# EAGLE library part MCP4251 (library fillament-winder)
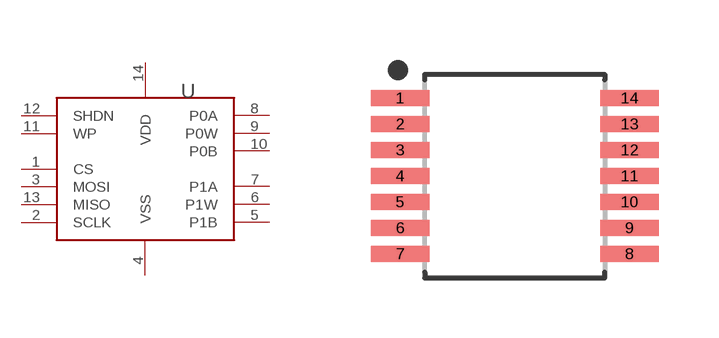
[diagram p5: symbol with the pads of SOP65P640X120-14; footprint SOP65P640X120-14]

Designator prefix U

## MCP4251  [SOP65P640X120-14]
1  CS
2  SCLK
3  MOSI
4  VSS  pas
5  P1B
6  P1W
7  P1A
8  P0A
9  P0W
10  P0B
11  WP
12  SHDN
13  MISO
14  VDD  pwr

## Footprint SOP65P640X120-14 (pad centres in mm)
14-SOP, 0.65 mm pitch, 6.40 mm span, 5.00 X 4.40 X 1.20 mm body 14-pin SOP package with 0.65 mm pitch, 6.40 mm span with body size 5.00 X 4.40 X 1.20 mm
smd 1.469 x 0.407: 1 -2.871,1.95; 2 -2.871,1.3; 3 -2.871,0.65; 4 -2.871,0; 5 -2.871,-0.65; 6 -2.871,-1.3; 7 -2.871,-1.95; 8 2.871,-1.95; 9 2.871,-1.3; 10 2.871,-0.65; 11 2.871,0; 12 2.871,0.65; 13 2.871,1.3; 14 2.871,1.95